# Altium footprint library 封装库.PcbLib: 324 footprints (part 5 of 21)
Each footprint in its own frame and in the unit in brackets; x right, y up, seen from the top. Pads: shape width x height; smd on the part's side, far side on the other; paste and mask are expansions set on the pad; w line width, h text height; cw(c..) or ccw(c..) is an arc to the next point about the centre after c.
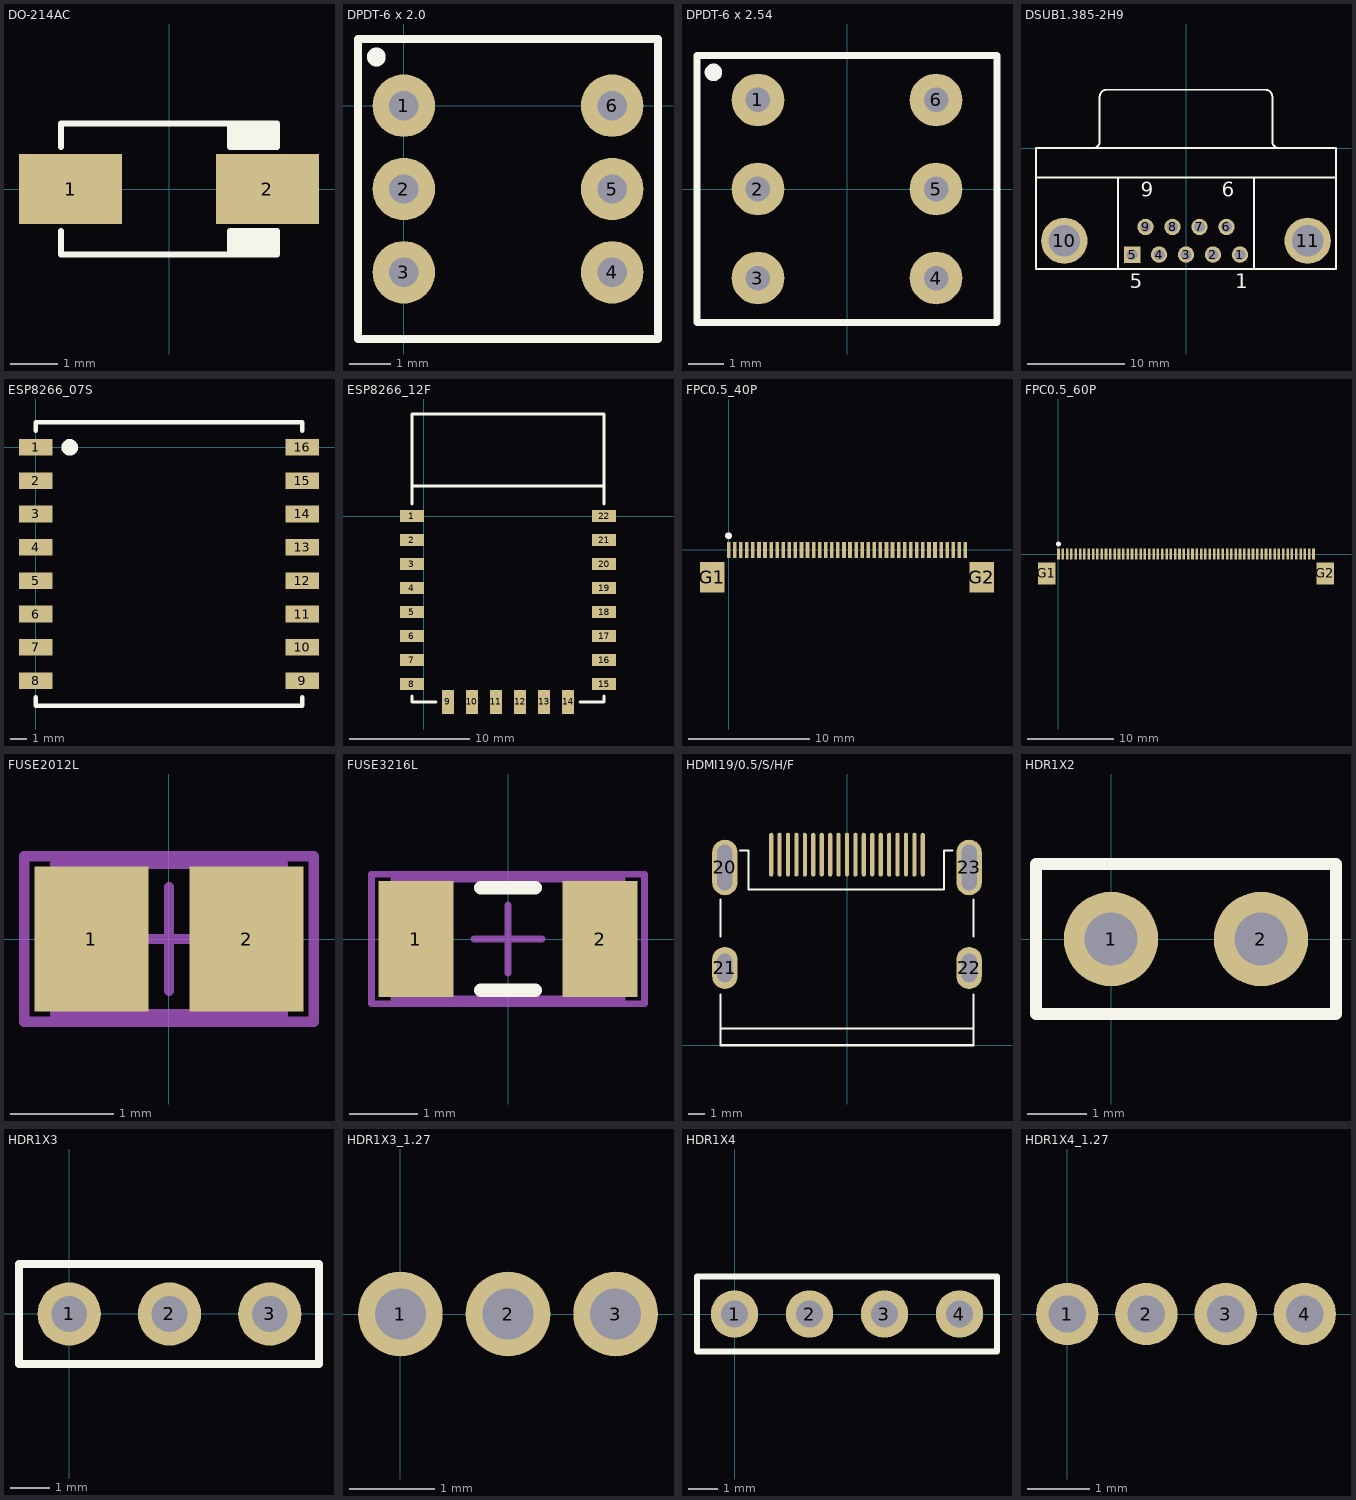
[diagram p4: the footprints below, top view; thin cyan lines are the x and y axes]

## DO-214AC [mm] "SMA"
pads (2):
  rect 2.2x1.5 smd: 1(-2.1,0) 2(2.1,0)
Top Overlay:
  rectangle: 1.3,-1.4 2.3,-0.9
  rectangle: 1.3,0.9 2.3,1.4
  lines w0.127: -2.3,-0.9 -2.3,-1.4 2.3,-1.4 2.3,-0.9 1.3,-0.9 1.3,-1.4 ; -2.3,0.9 -2.3,1.4 2.3,1.4 2.3,0.9 1.3,0.9 ; 1.3,0.911 1.3,1.4
3D body "SW3dPS-DO-214AC SMA.STEP": height 2.42, standoff 0.02, extent -2.6,-1.3 2.6,1.3

## DPDT-6 x 2.0 [mm] "Switch; 6 Leads"
pads (6):
  round 1.5 hole 0.7: 1(0,0) 2(0,-2) 3(0,-4) 4(5,-4) 5(5,-2) 6(5,0)
Top Overlay:
  circle w0.25: c-0.66,1.168 r0.1
  lines w0.2: -1.1,-5.6 6.1,-5.6 6.1,1.6 -1.1,1.6 -1.1,-5.6

## DPDT-6 x 2.54 [mm] "Switch; 6 Leads"
pads (6):
  round 1.5 hole 0.7: 1(-2.54,2.54) 2(-2.54,0) 3(-2.54,-2.54) 4(2.54,-2.54) 5(2.54,0) 6(2.54,2.54)
Top Overlay:
  circle w0.25: c-3.81,3.327 r0.125
  lines w0.2: -4.28,-3.81 -4.28,3.81 4.28,3.81 4.28,-3.81 -4.28,-3.81

## DSUB1.385-2H9 [mm] "Connector; D Subminiature; 9 Position; Right Angle; Pitch 1.385 mm"
height 12.75
pads (11):
  round 1.69 hole 1.09: 1(5.54,-10.92) 2(2.77,-10.92) 3(0,-10.92) 4(-2.77,-10.92) 6(4.155,-8.08) 7(1.385,-8.08) 8(-1.385,-8.08) 9(-4.155,-8.08)
  rect 1.69x1.69 hole 1.09: 5(-5.54,-10.92)
  round 4.76 hole 3.26: 10(-12.495,-9.5) 11(12.495,-9.5)
Top Overlay:
  lines w0.2: -15.4,-3 15.4,-3 ; -9.56,0.005 ccw(c-9.56,0.7) -8.865,0.7 -8.865,5.3 ; -8.86,5.305 cw(c-8.165,5.305) -8.165,6 8.165,6 cw(c8.165,5.305) 8.86,5.305 ; -7,-12.4 -7,-3 ; 7,-12.4 7,-3 ; 8.865,5.3 8.865,0.7 ccw(c9.56,0.7) 9.56,0.005 ; -15.4,-12.4 -15.4,0 15.4,0 15.4,-12.4 -15.4,-12.4
  text "5" at -5.79,-14.375 h1.5
  text "1" at 5.04,-14.375 h1.5
  text "6" at 3.655,-4.975 h1.5
  text "9" at -4.655,-4.975 h1.5

## ESP8266_07S [mm]
pads (16):
  rect 2x1 smd: 1(0,0) 2(0,-2) 3(0,-4) 4(0,-6) 5(0,-8) 6(0,-10) 7(0,-12) 8(0,-14) 9(16,-14) 10(16,-12) 11(16,-10) 12(16,-8) 13(16,-6) 14(16,-4) 15(16,-2) 16(16,0)
Top Overlay:
  circle w0.5: c2.04,0 r0.25
  lines w0.254: 0,-15.5 16,-15.5 ; 0,-15.48 0,-15 ; 0,1 0,1.48 ; 0,1.5 16,1.5 ; 16,-15.48 16,-15 ; 16,1 16,1.48

## ESP8266_12F [mm]
pads (22):
  rect 2x1 smd: 1(-1,0) 2(-1,-2) 3(-1,-4) 4(-1,-6) 5(-1,-8) 6(-1,-10) 7(-1,-12) 8(-1,-14) 15(15,-14) 16(15,-12) 17(15,-10) 18(15,-8) 19(15,-6) 20(15,-4) 21(15,-2) 22(15,0)
  rect 1x2 smd: 9(2,-15.48) 10(4,-15.48) 11(6,-15.48) 12(8,-15.48) 13(10,-15.48) 14(12,-15.48)
Top Overlay:
  lines w0.254: -1,-15 -1,-15.48 1,-15.48 ; -1,1 -1,8.5 15,8.5 15,1 ; -1,2.5 15,2.5 ; 13,-15.48 15,-15.48 15,-15

## FPC0.5_40P [mm]
height 2
pads (42):
  rect 0.3x1.3 smd: 1(0,0) 2(0.5,0) 3(1,0) 4(1.5,0) 5(2,0) 6(2.5,0) 7(3,0) 8(3.5,0) 9(4,0) 10(4.5,0) 11(5,0) 12(5.5,0) 13(6,0) 14(6.5,0) 15(7,0) 16(7.5,0) 17(8,0) 18(8.5,0) 19(9,0) 20(9.5,0) 21(10,0) 22(10.5,0) 23(11,0) 24(11.5,0) 25(12,0) 26(12.5,0) 27(13,0) 28(13.5,0) 29(14,0) 30(14.5,0) 31(15,0) 32(15.5,0) 33(16,0) 34(16.5,0) 35(17,0) 36(17.5,0) 37(18,0) 38(18.5,0) 39(19,0) 40(19.5,0)
  rect 2x2.5 smd: G1(-1.35,-2.25) G2(20.85,-2.25)
Top Overlay:
  circle w0.508: c0,1.168 r0.025

## FPC0.5_60P [mm]
height 2
pads (62):
  rect 0.3x1.3 smd: 1(0,0) 2(0.5,0) 3(1,0) 4(1.5,0) 5(2,0) 6(2.5,0) 7(3,0) 8(3.5,0) 9(4,0) 10(4.5,0) 11(5,0) 12(5.5,0) 13(6,0) 14(6.5,0) 15(7,0) 16(7.5,0) 17(8,0) 18(8.5,0) 19(9,0) 20(9.5,0) 21(10,0) 22(10.5,0) 23(11,0) 24(11.5,0) 25(12,0) 26(12.5,0) 27(13,0) 28(13.5,0) 29(14,0) 30(14.5,0) 31(15,0) 32(15.5,0) 33(16,0) 34(16.5,0) 35(17,0) 36(17.5,0) 37(18,0) 38(18.5,0) 39(19,0) 40(19.5,0) 41(20,0) 42(20.5,0) 43(21,0) 44(21.5,0) 45(22,0) 46(22.5,0) 47(23,0) 48(23.5,0) 49(24,0) 50(24.5,0) 51(25,0) 52(25.5,0) 53(26,0) 54(26.5,0) 55(27,0) 56(27.5,0) 57(28,0) 58(28.5,0) 59(29,0) 60(29.5,0)
  rect 2x2.5 smd: G1(-1.35,-2.25) G2(30.85,-2.25)
Top Overlay:
  circle w0.508: c0,1.168 r0.025

## FUSE2012L [mm] "Body 2.0x1.2mm, IPC Low Density"
height 0.7
pads (2):
  rect 1.1x1.4 smd: 1(-0.75,0) 2(0.75,0)
Mechanical 13:
  lines w0.1: -1.1,-0.725 1.1,-0.725 1.1,0.725 -1.1,0.725 -1.1,-0.725
Mechanical 15:
  lines w0.1: -0.5,0 0.5,0 ; 0,-0.5 0,0.5 ; -1.4,-0.8 1.4,-0.8 1.4,0.8 -1.4,0.8 -1.4,-0.8
3D body: height 1.4, standoff 0, extent -1.1,-0.725 1.1,0.725

## FUSE3216L [mm]
pads (2):
  rect 1.1x1.7 smd: 1(-1.35,0) 2(1.35,0)
Top Overlay:
  lines w0.2: -0.4,-0.75 0.4,-0.75 ; -0.4,0.75 0.4,0.75
Mechanical 13:
  lines w0.1: -1.675,-0.875 -1.675,0.875 1.675,0.875 1.675,-0.875 -1.675,-0.875
Mechanical 15:
  lines w0.1: -0.5,0 0.5,0 ; 0,-0.5 0,0.5 ; -2,-0.95 -2,0.95 2,0.95 2,-0.95 -2,-0.95
3D body: height 0.71, standoff 0, extent -1.675,-0.875 1.675,0.875

## HDMI19/0.5/S/H/F [mm]
pads (23):
  oval 0.25x2.6 smd: 1(4.5,11.31) 2(4,11.31) 3(3.5,11.31) 4(3,11.31) 5(2.5,11.31) 6(2,11.31) 7(1.5,11.31) 8(1,11.31) 9(0.5,11.31) 10(0,11.31) 11(-0.5,11.31) 12(-1,11.31) 13(-1.5,11.31) 14(-2,11.31) 15(-2.5,11.31) 16(-3,11.31) 17(-3.5,11.31) 18(-4,11.31) 19(-4.5,11.31)
  oval 1.5x3.3 hole 0.9 slot 2.7 at 90 deg: 20(-7.25,10.55) 23(7.25,10.55)
  oval 1.5x2.5 hole 0.9 slot 1.7 at 90 deg: 21(-7.25,4.59) 22(7.25,4.59)
Top Overlay:
  lines w0.127: -7.5,1 7.5,1 ; -7.5,3 -7.5,0 7.5,0 7.5,3 ; -7.5,6.45 -7.5,8.65 ; -6.35,11.55 -5.85,11.55 -5.85,9.25 5.75,9.25 5.75,11.55 6.25,11.55 ; 7.5,6.45 7.5,8.65
Mechanical 1:
  lines w0.1: -7.7,4.19 ccw(c-7.25,4.19) -6.8,4.19 -6.8,4.99 ccw(c-7.25,4.99) -7.7,4.99 -7.7,4.19 ; -7.7,9.65 ccw(c-7.25,9.65) -6.8,9.65 -6.8,11.45 ccw(c-7.25,11.45) -7.7,11.45 -7.7,9.65 ; 6.8,4.19 ccw(c7.25,4.19) 7.7,4.19 7.7,4.99 ccw(c7.25,4.99) 6.8,4.99 6.8,4.19 ; 6.8,9.65 ccw(c7.25,9.65) 7.7,9.65 7.7,11.45 ccw(c7.25,11.45) 6.8,11.45 6.8,9.65
Mechanical 2:
  lines w0.025: 0,0.127 0,0 0.127,0
  text "19_HOT_PLUG_DETECT" at -4.6,9.033 h0.2
  text "18_+5V" at -4.1,9.033 h0.2
  text "17_DDC/CEC GND" at -3.6,9.033 h0.2
  text "16_SDA" at -3.1,9.033 h0.2
  text "15_SCL" at -2.6,9.033 h0.2
  text "14_NC" at -2.1,9.033 h0.2
  text "13_CEC" at -1.6,9.033 h0.2
  text "12_CLK-" at -1.1,9.033 h0.2
  text "11_GND" at -0.6,9.033 h0.2
  text "10_CLK+" at -0.1,9.033 h0.2
  text "9_D0-" at 0.4,9.033 h0.2
  text "8_GND" at 0.9,9.033 h0.2
  text "7_D0+" at 1.4,9.033 h0.2
  text "6_D1-" at 1.9,9.033 h0.2
  text "5_GND" at 2.4,9.033 h0.2
  text "4_D1+" at 2.9,9.033 h0.2
  text "3_D2-" at 3.4,9.033 h0.2
  text "2_GND" at 3.9,9.033 h0.2
  text "1_D2+" at 4.4,9.033 h0.2

## HDR1X2 [mm] "Connector; Header; 2 Position"
pads (2):
  round 1.6 hole 0.9: 1(0,0) 2(2.54,0)
Top Overlay:
  lines w0.2: -1.27,-1.27 -1.27,1.27 3.81,1.27 3.81,-1.27 -1.27,-1.27

## HDR1X3 [mm] "Connector; Header; 3 Position"
pads (3):
  round 1.6 hole 0.9: 1(0,0) 2(2.54,0) 3(5.08,0)
Top Overlay:
  lines w0.2: 6.299,-1.27 -1.27,-1.27 -1.27,1.27 6.325,1.27 6.325,-1.27

## HDR1X3_1.27 [mm]
pads (3):
  round 1 hole 0.6: 1(0,0) 2(1.27,0) 3(2.54,0)

## HDR1X4 [mm] "Connector; Header; 4 Position"
pads (4):
  round 1.6 hole 0.9: 1(0,0) 2(2.54,0) 3(5.08,0) 4(7.62,0)
Top Overlay:
  lines w0.2: -1.27,-1.27 8.89,-1.27 8.89,1.27 -1.27,1.27 -1.27,-1.27

## HDR1X4_1.27 [mm]
pads (4):
  round 1 hole 0.6: 1(0,0) 2(1.27,0) 3(2.54,0) 4(3.81,0)